# Altium footprint library MAXF10S00B.PcbLib: 1 footprints
Each footprint in its own frame and in the unit in brackets; x right, y up, seen from the top. Pads: shape width x height; smd on the part's side, far side on the other; paste and mask are expansions set on the pad; w line width, h text height; cw(c..) or ccw(c..) is an arc to the next point about the centre after c.
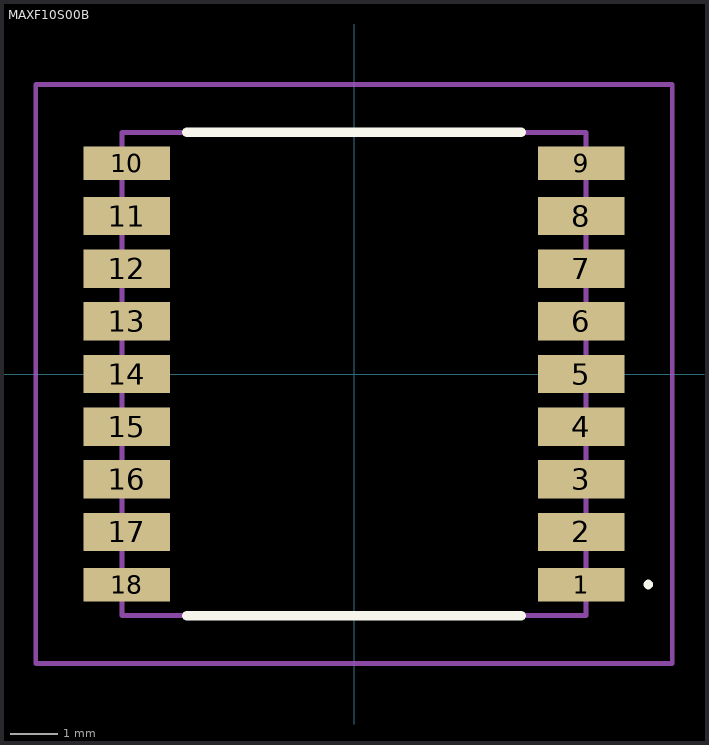
[diagram p0: the footprint, top view; thin cyan lines are the x and y axes]

## MAXF10S00B [mm]
pads (18):
  rect 1.8x0.7 smd: 1(4.75,-4.4) 9(4.75,4.4) 10(-4.75,4.4) 18(-4.75,-4.4)
  rect 1.8x0.8 smd: 2(4.75,-3.3) 3(4.75,-2.2) 4(4.75,-1.1) 5(4.75,0) 6(4.75,1.1) 7(4.75,2.2) 8(4.75,3.3) 11(-4.75,3.3) 12(-4.75,2.2) 13(-4.75,1.1) 14(-4.75,0) 15(-4.75,-1.1) 16(-4.75,-2.2) 17(-4.75,-3.3)
Top Overlay:
  lines w0.1: 6.1,-4.4 cw(c6.15,-4.4) 6.2,-4.4 ; 6.1,-4.4 6.1,-4.4 ; 6.1,-4.4 ccw(c6.15,-4.4) 6.2,-4.4 ; 6.2,-4.4 6.2,-4.4
  lines w0.2: -3.5,-5.05 3.5,-5.05 ; -3.5,5.05 3.5,5.05
Mechanical 15:
  lines w0.1: -4.85,-5.05 4.85,-5.05 4.85,5.05 -4.85,5.05 -4.85,-5.05
Mechanical 20:
  lines w0.1: -6.65,-6.05 6.65,-6.05 6.65,6.05 -6.65,6.05 -6.65,-6.05